# Altium footprint library LI24-1A85.PcbLib: 1 footprints
Each footprint in its own frame and in the unit in brackets; x right, y up, seen from the top. Pads: shape width x height; smd on the part's side, far side on the other; paste and mask are expansions set on the pad; w line width, h text height; cw(c..) or ccw(c..) is an arc to the next point about the centre after c.
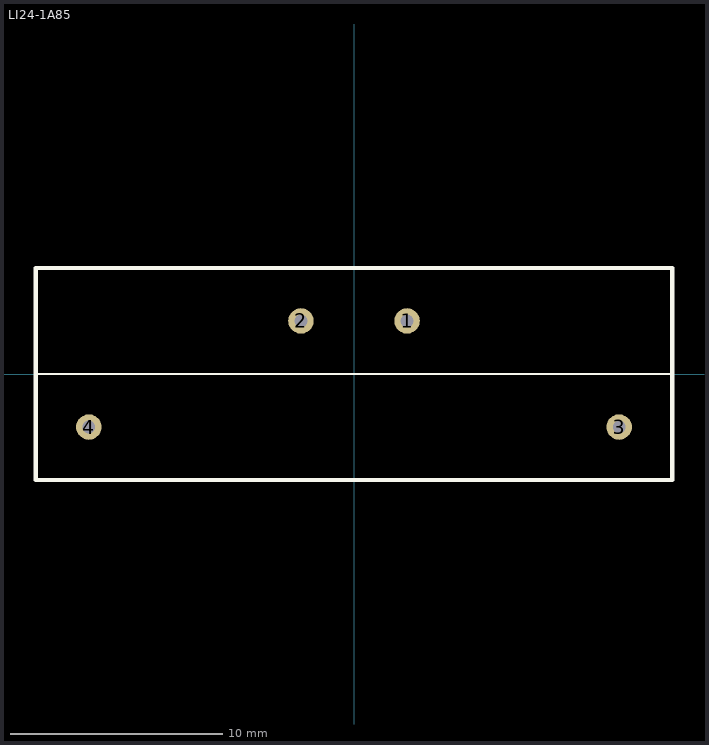
[diagram p0: the footprint, top view; thin cyan lines are the x and y axes]

## LI24-1A85 [mm]
pads (4):
  round 1.2 hole 0.6: 1(2.5,2.5) 2(-2.5,2.5) 3(12.5,-2.5) 4(-12.5,-2.5)
Top Overlay:
  lines w0.1: -15,0 15,0
  lines w0.2: -15,-5 -15,5 15,5 15,-5 -15,-5